# EAGLE library part LTC6992 (library di_ic)
Linear Technology. TimerBlox: Voltage-Controlled Pulse Width Modulator (PWM) http://cds.linear.com/docs/Datasheet/69921234f.pdf
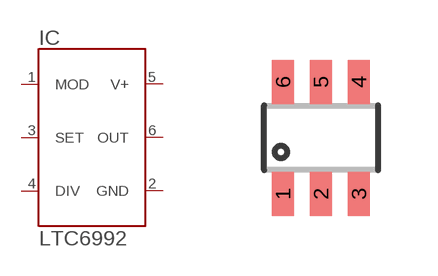
[diagram p23: symbol with the pads of SOT23-6; footprint SOT23-6]

Designator prefix IC

## LTC6992 (PARTNUM: LTC6992HS6-3#TRMPBFCT-ND)  [SOT23-6]
1  MOD  pas
2  GND  pas
3  SET  pas
4  DIV  pas
5  V+  pas
6  OUT  pas

## Footprint SOT23-6 (pad centres in mm)
Small Outline Transistor
smd 0.55 x 1.1: 1 -0.95,-1.4; 2 0,-1.4; 3 0.95,-1.4; 4 0.95,1.4; 5 0,1.4; 6 -0.95,1.4